# Altium schematic symbol library T_CM.Schlib: 1 symbol
Pins are listed as number, name and electrical type; pins without a type are passive.

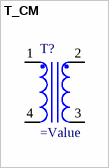
[diagram p0: symbol T_CM]

## T_CM
designator T?
Common-Mode Choke
pins: 1 IN1, 2 IN2, 3 OUT2, 4 OUT1